# Altium integrated library RK097111080R.IntLib: 1 symbol
Pins are listed as number, name and electrical type; pins without a type are passive.

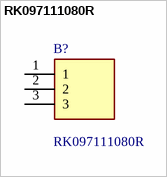
[diagram p0: symbol RK097111080R]

## RK097111080R
designator B?
Potentiometers 10 KOhms 30% 9mm Size Metal Shaft Multi-ganged Type RK097 Series; Manufacturer_Name: ALPS Electric; Geometry.Height: 11.35mm; Mouser Part Number: 688-RK097111080R; Mouser Price/Stock: https://www.mouser.co.uk/ProductDetail/Alps-Alpine/RK097111080R?qs=fQ8kcZGzY5WK5XwYgTbZDw%3D%3D; Manufacturer_Part_Number: RK097111080R; Datasheet Link: https://www.mouser.de/datasheet/2/15/ALPS_7_10_2024_RK097_1274130-3473249.pdf
footprint RK097111080R
pins: 1, 2, 3